# Altium footprint library WPME-CDIS.PcbLib: 3 footprints
Each footprint in its own frame and in the unit in brackets; x right, y up, seen from the top. Pads: shape width x height; smd on the part's side, far side on the other; paste and mask are expansions set on the pad; w line width, h text height; cw(c..) or ccw(c..) is an arc to the next point about the centre after c.
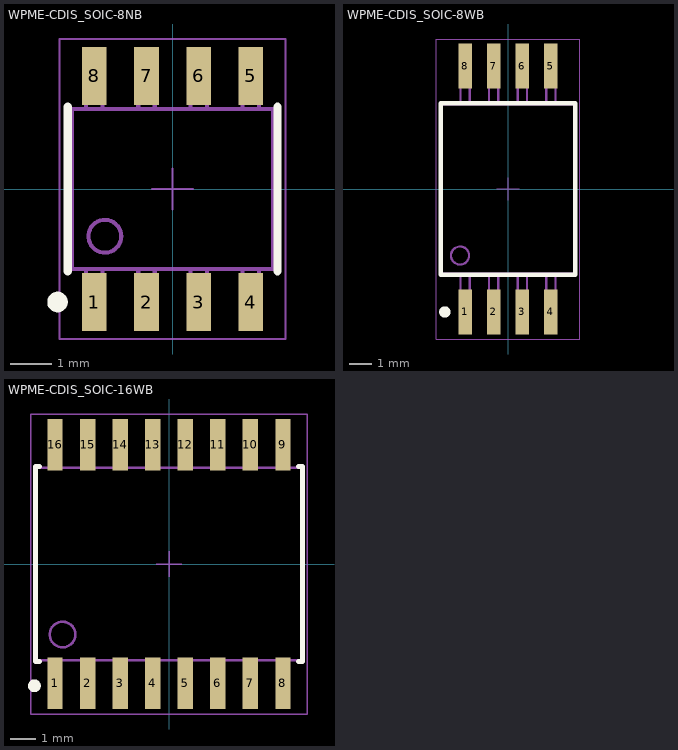
[diagram p0: the footprints below, top view; thin cyan lines are the x and y axes]

## WPME-CDIS_SOIC-8NB [mm] "Digital Isolator, SOIC-8NB"
height 1.8
pads (8):
  rect 0.6x1.4 smd: 1(-1.905,-2.75) 2(-0.635,-2.75) 3(0.635,-2.75) 4(1.905,-2.75) 5(1.905,2.75) 6(0.635,2.75) 7(-0.635,2.75) 8(-1.905,2.75)
Top Overlay:
  circle w0.25: c-2.8,-2.75 r0.125
  lines w0.2: -2.55,-2 -2.55,2 ; 2.55,-2 2.55,2
Top Component Outline:
  circle w0.1: c-1.65,-1.15 r0.4
  lines w0.1: -2.105,-1.95 -2.105,-3 -1.705,-3 -1.705,-1.95 ; -2.105,1.95 -2.105,3 -1.705,3 -1.705,1.95 ; -0.835,-1.95 -0.835,-3 -0.435,-3 -0.435,-1.95 ; -0.835,1.95 -0.835,3 -0.435,3 -0.435,1.95 ; 0.435,-1.95 0.435,-3 0.835,-3 0.835,-1.95 ; 0.435,1.95 0.435,3 0.835,3 0.835,1.95 ; 1.705,-1.95 1.705,-3 2.105,-3 2.105,-1.95 ; 1.705,1.95 1.705,3 2.105,3 2.105,1.95 ; -2.45,-1.95 2.45,-1.95 2.45,1.95 -2.45,1.95 -2.45,-1.95
Top Courtyard:
  lines w0.05: -2.75,-3.65 2.75,-3.65 2.75,3.65 -2.75,3.65 -2.75,-3.65
Top Component Center:
  lines w0.05: -0.5,0 0.5,0 ; 0,-0.5 0,0.5
Top Designator (Mech19):
  text ".Designator" at -7.498,-0.5 h1.5
3D body "18012x15411x.stp": height 1.8, standoff 0, extent -2.45,-3 2.45,3

## WPME-CDIS_SOIC-8WB [mm] "Digital Isolator, WPME-CDIS_SOIC-8WB"
height 2.8
pads (8):
  rect 0.6x2 smd: 1(-1.905,-5.45) 2(-0.635,-5.45) 3(0.635,-5.45) 4(1.905,-5.45) 5(1.905,5.45) 6(0.635,5.45) 7(-0.635,5.45) 8(-1.905,5.45)
Top Overlay:
  circle w0.25: c-2.8,-5.45 r0.125
  lines w0.2: -2.975,-3.8 -2.975,3.8 2.975,3.8 2.975,-3.8 -2.975,-3.8
Top Component Outline:
  circle w0.1: c-2.125,-2.95 r0.4
  lines w0.1: -2.11,-3.75 -2.11,-5.75 -1.7,-5.75 -1.7,-3.75 ; -2.11,3.75 -2.11,5.75 -1.7,5.75 -1.7,3.75 ; -0.84,-3.75 -0.84,-5.75 -0.43,-5.75 -0.43,-3.75 ; -0.84,3.75 -0.84,5.75 -0.43,5.75 -0.43,3.75 ; 0.43,-3.75 0.43,-5.75 0.84,-5.75 0.84,-3.75 ; 0.43,3.75 0.43,5.75 0.84,5.75 0.84,3.75 ; 1.7,-3.75 1.7,-5.75 2.11,-5.75 2.11,-3.75 ; 1.7,3.75 1.7,5.75 2.11,5.75 2.11,3.75 ; -2.925,-3.75 2.925,-3.75 2.925,3.75 -2.925,3.75 -2.925,-3.75
Top Courtyard:
  lines w0.05: -3.175,-6.65 3.175,-6.65 3.175,6.65 -3.175,6.65 -3.175,-6.65
Top Component Center:
  lines w0.05: -0.5,0 0.5,0 ; 0,-0.5 0,0.5
Top Designator (Mech19):
  text ".Designator" at -7.498,-0.5 h1.5
3D body "18012x15421x.stp": height 2.7, standoff 0, extent -2.925,-5.75 2.925,5.75

## WPME-CDIS_SOIC-16WB [mm] "Digital Isolator, SOIC-16WB"
height 2.65
pads (16):
  rect 0.6x2 smd: 1(-4.445,-4.65) 2(-3.175,-4.65) 3(-1.905,-4.65) 4(-0.635,-4.65) 5(0.635,-4.65) 6(1.905,-4.65) 7(3.175,-4.65) 8(4.445,-4.65) 9(4.445,4.65) 10(3.175,4.65) 11(1.905,4.65) 12(0.635,4.65) 13(-0.635,4.65) 14(-1.905,4.65) 15(-3.175,4.65) 16(-4.445,4.65)
Top Overlay:
  circle w0.25: c-5.25,-4.75 r0.125
  lines w0.2: -5.05,-3.8 -5.2,-3.8 -5.2,3.8 -5.05,3.8 ; 5.05,-3.8 5.2,-3.8 5.2,3.8 5.05,3.8
Top Component Outline:
  circle w0.1: c-4.15,-2.75 r0.5
  lines w0.1: -4.64,-3.75 -4.64,-5.15 -4.25,-5.15 -4.25,-3.75 ; -4.64,3.75 -4.64,5.15 -4.25,5.15 -4.25,3.75 ; -3.37,-3.75 -3.37,-5.15 -2.98,-5.15 -2.98,-3.75 ; -3.37,3.75 -3.37,5.15 -2.98,5.15 -2.98,3.75 ; -2.1,-3.75 -2.1,-5.15 -1.71,-5.15 -1.71,-3.75 ; -2.1,3.75 -2.1,5.15 -1.71,5.15 -1.71,3.75 ; -0.83,-3.75 -0.83,-5.15 -0.44,-5.15 -0.44,-3.75 ; -0.83,3.75 -0.83,5.15 -0.44,5.15 -0.44,3.75 ; 0.44,-3.75 0.44,-5.15 0.83,-5.15 0.83,-3.75 ; 0.44,3.75 0.44,5.15 0.83,5.15 0.83,3.75 ; 1.71,-3.75 1.71,-5.15 2.1,-5.15 2.1,-3.75 ; 1.71,3.75 1.71,5.15 2.1,5.15 2.1,3.75 ; 2.98,-3.75 2.98,-5.15 3.37,-5.15 3.37,-3.75 ; 2.98,3.75 2.98,5.15 3.37,5.15 3.37,3.75 ; 4.25,-3.75 4.25,-5.15 4.64,-5.15 4.64,-3.75 ; 4.25,3.75 4.25,5.15 4.64,5.15 4.64,3.75 ; -5.15,-3.75 -5.15,3.75 5.15,3.75 5.15,-3.75 -5.15,-3.75
Top Courtyard:
  lines w0.05: -5.4,-5.85 -5.4,5.85 5.4,5.85 5.4,-5.85 -5.4,-5.85
Top Component Center:
  lines w0.05: -0.5,0 0.5,0 ; 0,-0.5 0,0.5
Top Designator (Mech19):
  text ".Designator" at -4.998,-0.333 h1
3D body "18014x15401x.stp": height 2.5, standoff 0, extent -5.15,-5.15 5.15,5.15